# Altium schematic symbol library NTC Thermistor.SCHLIB: 1 symbol
Pins are listed as number, name and electrical type; pins without a type are passive.

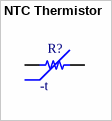
[diagram p0: symbol NTC Thermistor]

## NTC Thermistor
designator R?
pins: 1, 2
text: -t